# Altium schematic symbol library HC-027.Schlib: 1 symbol
Pins are listed as number, name and electrical type; pins without a type are passive.

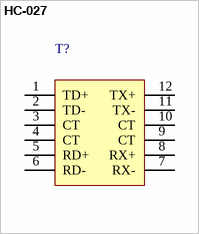
[diagram p0: symbol HC-027]

## HC-027
designator T?
10/100 PC CARD MAGNETIC MODULE
pins: 1 TD+, 2 TD-, 3 CT, 4 CT, 5 RD+, 6 RD-, 7 RX-, 8 RX+, 9 CT, 10 CT, 11 TX-, 12 TX+